# Altium schematic symbol library SSSS224100.SchLib: 1 symbol
Pins are listed as number, name and electrical type; pins without a type are passive.

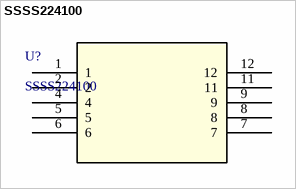
[diagram p0: symbol SSSS224100]

## SSSS224100
designator U?
No Description Available; Manufacturer_Name: Alps Electric; Copyright: Copyright (C) 2025 Ultra Librarian. All rights reserved.; Manufacturer_Part_Number: SSSS224100; RefDes: RefDes; Type: Type
footprint DIP_S224100_ALPS
pins: 1, 2, 4, 5, 6, 7, 8, 9, 11, 12